# EAGLE library part C165-RM (library micro-siemens)
MICROPROCESSOR/PERIPHERAL DEVICE
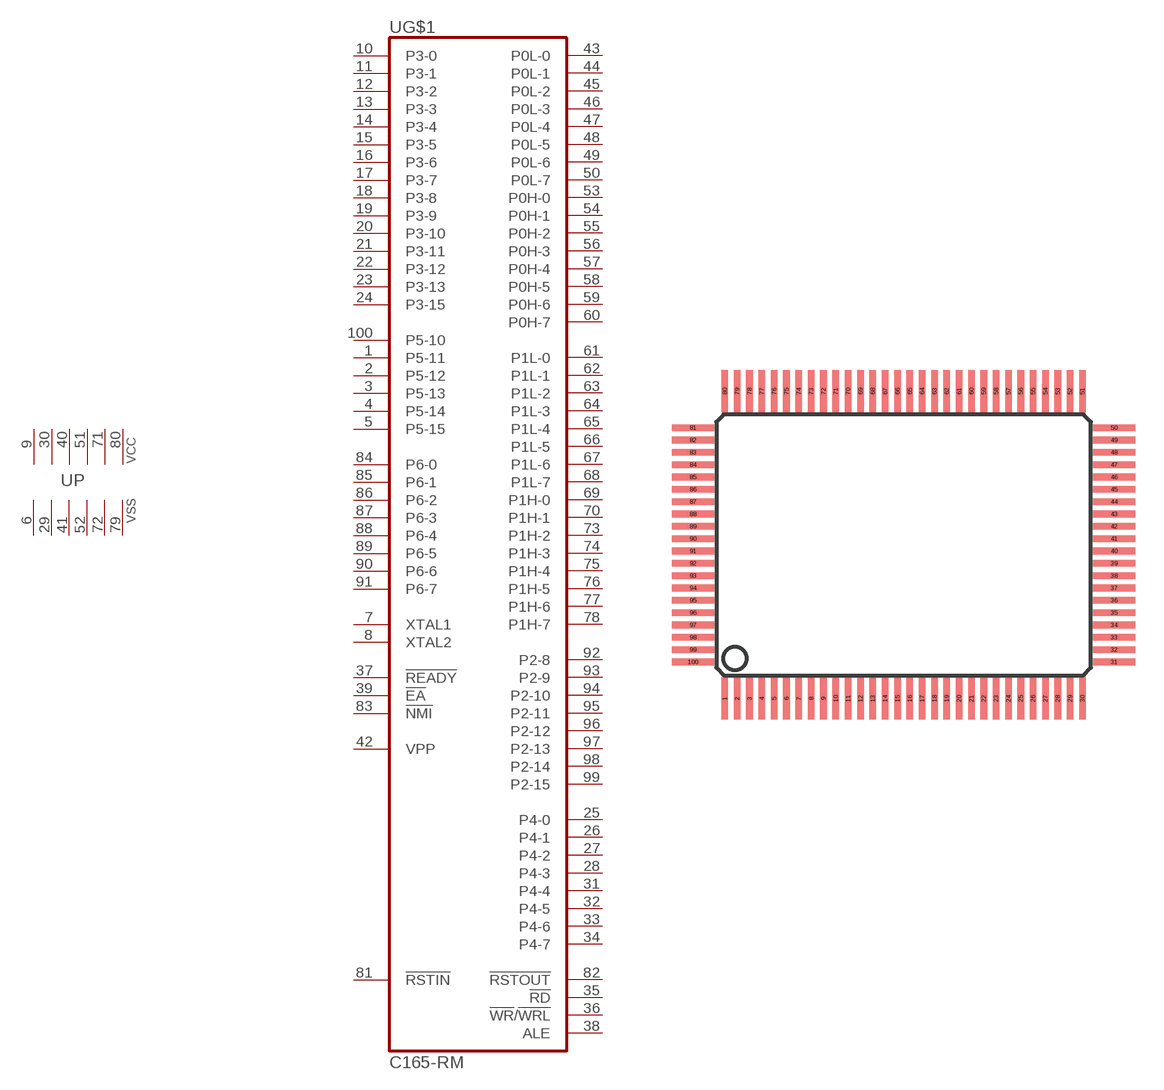
[diagram p1: symbol with the pads of MQFP100; footprint MQFP100]

Designator prefix U; gates G$1=C165 P=6_VCCVSS

## C165-RM  [MQFP100]
1  G$1:P5-11  in
2  G$1:P5-12  in
3  G$1:P5-13  in
4  G$1:P5-14  in
5  G$1:P5-15  in
6  P:VSS  pwr
7  G$1:XTAL1  in
8  G$1:XTAL2  out
9  P:VCC  pwr
10  G$1:P3-0
11  G$1:P3-1
12  G$1:P3-2
13  G$1:P3-3
14  G$1:P3-4
15  G$1:P3-5
16  G$1:P3-6
17  G$1:P3-7
18  G$1:P3-8
19  G$1:P3-9
20  G$1:P3-10
21  G$1:P3-11
22  G$1:P3-12
23  G$1:P3-13
24  G$1:P3-15
25  G$1:P4-0
26  G$1:P4-1
27  G$1:P4-2
28  G$1:P4-3
29  P:VSS  pwr
30  P:VCC  pwr
31  G$1:P4-4
32  G$1:P4-5
33  G$1:P4-6
34  G$1:P4-7
35  G$1:!RD  out
36  G$1:!WR!/!WRL  out
37  G$1:!READY  in
38  G$1:ALE  out
39  G$1:!EA  in
40  P:VCC  pwr
41  P:VSS  pwr
42  G$1:VPP  pas
43  G$1:P0L-0
44  G$1:P0L-1
45  G$1:P0L-2
46  G$1:P0L-3
47  G$1:P0L-4
48  G$1:P0L-5
49  G$1:P0L-6
50  G$1:P0L-7
51  P:VCC  pwr
52  P:VSS  pwr
53  G$1:P0H-0
54  G$1:P0H-1
55  G$1:P0H-2
56  G$1:P0H-3
57  G$1:P0H-4
58  G$1:P0H-5
59  G$1:P0H-6
60  G$1:P0H-7
61  G$1:P1L-0
62  G$1:P1L-1
63  G$1:P1L-2
64  G$1:P1L-3
65  G$1:P1L-4
66  G$1:P1L-5
67  G$1:P1L-6
68  G$1:P1L-7
69  G$1:P1H-0
70  G$1:P1H-1
71  P:VCC  pwr
72  P:VSS  pwr
73  G$1:P1H-2
74  G$1:P1H-3
75  G$1:P1H-4
76  G$1:P1H-5
77  G$1:P1H-6
78  G$1:P1H-7
79  P:VSS  pwr
80  P:VCC  pwr
81  G$1:!RSTIN  in
82  G$1:!RSTOUT  out
83  G$1:!NMI  in
84  G$1:P6-0
85  G$1:P6-1
86  G$1:P6-2
87  G$1:P6-3
88  G$1:P6-4
89  G$1:P6-5
90  G$1:P6-6
91  G$1:P6-7
92  G$1:P2-8
93  G$1:P2-9
94  G$1:P2-10
95  G$1:P2-11
96  G$1:P2-12
97  G$1:P2-13
98  G$1:P2-14
99  G$1:P2-15
100  G$1:P5-10  in

## Footprint MQFP100 (pad centres in mm)
Metric Quad Flat Pack
smd 0.35 x 2.2: 1 -9.425,-8.1; 2 -8.775,-8.1; 3 -8.125,-8.1; 4 -7.475,-8.1; 5 -6.825,-8.1; 6 -6.175,-8.1; 7 -5.525,-8.1; 8 -4.875,-8.1; 9 -4.225,-8.1; 10 -3.575,-8.1; 11 -2.925,-8.1; 12 -2.275,-8.1; 13 -1.625,-8.1; 14 -0.975,-8.1; 15 -0.325,-8.1; 16 0.325,-8.1; 17 0.975,-8.1; 18 1.625,-8.1; 19 2.275,-8.1; 20 2.925,-8.1; 21 3.575,-8.1; 22 4.225,-8.1; 23 4.875,-8.1; 24 5.525,-8.1; 25 6.175,-8.1; 26 6.825,-8.1; 27 7.475,-8.1; 28 8.125,-8.1; 29 8.775,-8.1; 30 9.425,-8.1; 51 9.425,8.1; 52 8.775,8.1; 53 8.125,8.1; 54 7.475,8.1; 55 6.825,8.1; 56 6.175,8.1; 57 5.525,8.1; 58 4.875,8.1; 59 4.225,8.1; 60 3.575,8.1; 61 2.925,8.1; 62 2.275,8.1; 63 1.625,8.1; 64 0.975,8.1; 65 0.325,8.1; 66 -0.325,8.1; 67 -0.975,8.1; 68 -1.625,8.1; 69 -2.275,8.1; 70 -2.925,8.1; 71 -3.575,8.1; 72 -4.225,8.1; 73 -4.875,8.1; 74 -5.525,8.1; 75 -6.175,8.1; 76 -6.825,8.1; 77 -7.475,8.1; 78 -8.125,8.1; 79 -8.775,8.1; 80 -9.425,8.1
smd 2.2 x 0.35: 31 11.1,-6.175; 32 11.1,-5.525; 33 11.1,-4.875; 34 11.1,-4.225; 35 11.1,-3.575; 36 11.1,-2.925; 37 11.1,-2.275; 38 11.1,-1.625; 39 11.1,-0.975; 40 11.1,-0.325; 41 11.1,0.325; 42 11.1,0.975; 43 11.1,1.625; 44 11.1,2.275; 45 11.1,2.925; 46 11.1,3.575; 47 11.1,4.225; 48 11.1,4.875; 49 11.1,5.525; 50 11.1,6.175; 81 -11.1,6.175; 82 -11.1,5.525; 83 -11.1,4.875; 84 -11.1,4.225; 85 -11.1,3.575; 86 -11.1,2.925; 87 -11.1,2.275; 88 -11.1,1.625; 89 -11.1,0.975; 90 -11.1,0.325; 91 -11.1,-0.325; 92 -11.1,-0.975; 93 -11.1,-1.625; 94 -11.1,-2.275; 95 -11.1,-2.925; 96 -11.1,-3.575; 97 -11.1,-4.225; 98 -11.1,-4.875; 99 -11.1,-5.525; 100 -11.1,-6.175